# EAGLE library part HX711 (library HX711)
HX711 Modul (grünes Board mit Beschriftung XFW-HX711) Amazon-Link: https://www.amazon.de/dp/B07GT2HYFJ/ref=cm_sw_em_r_mt_dp_MdG6FbCTQN8ND?_encoding=UTF8&psc=1
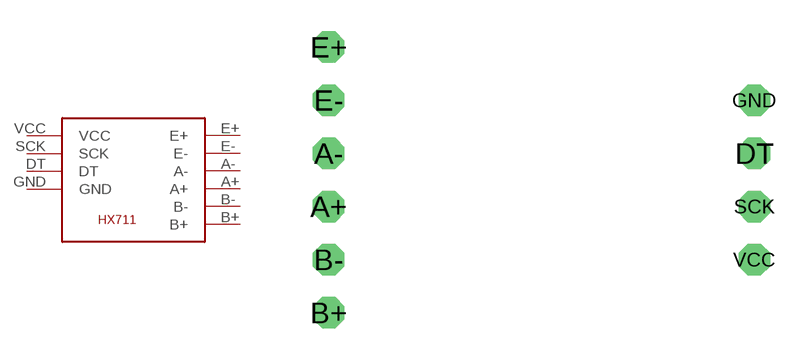
[diagram p0: symbol with the pads of HX711; footprint HX711]

Designator prefix -

## HX711  [HX711]
A+  A+
A-  A-
B+  B+
B-  B-
DT  DT
E+  E+
E-  E-
GND  GND
SCK  SCK
VCC  VCC

## Footprint HX711 (pad centres in mm)
drill 1 octagon: A+ 0,5.08; A- 0,7.62; B+ 0,0; B- 0,2.54; DT 20.32,7.62; E+ 0,12.7; E- 0,10.16; GND 20.32,10.16; SCK 20.32,5.08; VCC 20.32,2.54